# Altium schematic symbol library Cap.SchLib: 1 symbol
Pins are listed as number, name and electrical type; pins without a type are passive.

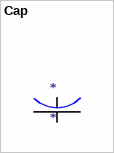
[diagram p0: symbol Cap]

## Cap
designator *
footprint C0603
footprint C0805
footprint C1206
footprint C1210
footprint C1812
footprint C2225
pins: 1, 2